# EAGLE library part ICL3221 (library ICs)
Transceiver RS232, CMOS, 256 Kbps, 3V-5.5V supply, SSOP-16
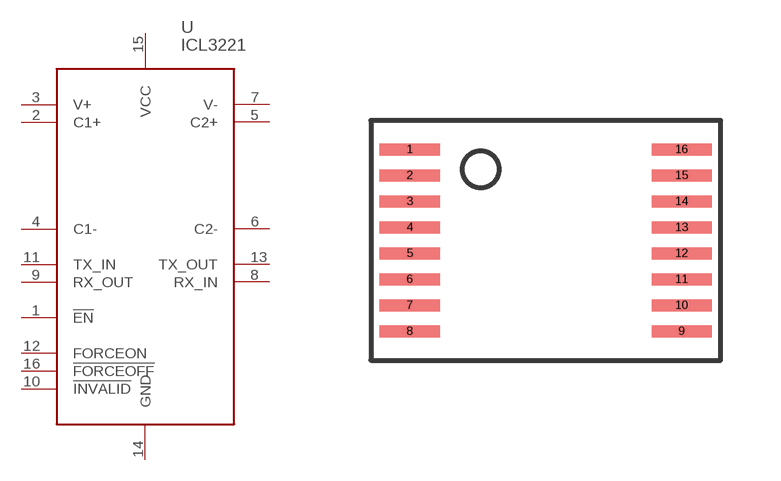
[diagram p159: symbol with the pads of SSOP16-5MM; footprint SSOP16-5MM]

Designator prefix U

## ICL3221 (DIGIKEY: ICL3221CAZ-TCT-ND; HEIGHT: 2; PRICE_PER: 1.25; VALUE: ICL3221)  [SSOP16-5MM]
1  !EN  in
2  C1+
3  V+
4  C1-
5  C2+
6  C2-
7  V-
8  RX_IN  in
9  RX_OUT  out
10  !INVALID  out
11  TX_IN  in
12  FORCEON  in
13  TX_OUT  out
14  GND  pwr
15  VCC  pwr
16  !FORCEOFF  in

## Footprint SSOP16-5MM (pad centres in mm)
smd 1.5 x 0.3: 1 -3.4,2.275; 2 -3.4,1.625; 3 -3.4,0.975; 4 -3.4,0.325; 5 -3.4,-0.325; 6 -3.4,-0.975; 7 -3.4,-1.625; 8 -3.4,-2.275; 9 3.4,-2.275; 10 3.4,-1.625; 11 3.4,-0.975; 12 3.4,-0.325; 13 3.4,0.325; 14 3.4,0.975; 15 3.4,1.625; 16 3.4,2.275